# Altium footprint library C19268642.PcbLib: 1 footprints
Each footprint in its own frame and in the unit in brackets; x right, y up, seen from the top. Pads: shape width x height; smd on the part's side, far side on the other; paste and mask are expansions set on the pad; w line width, h text height; cw(c..) or ccw(c..) is an arc to the next point about the centre after c.
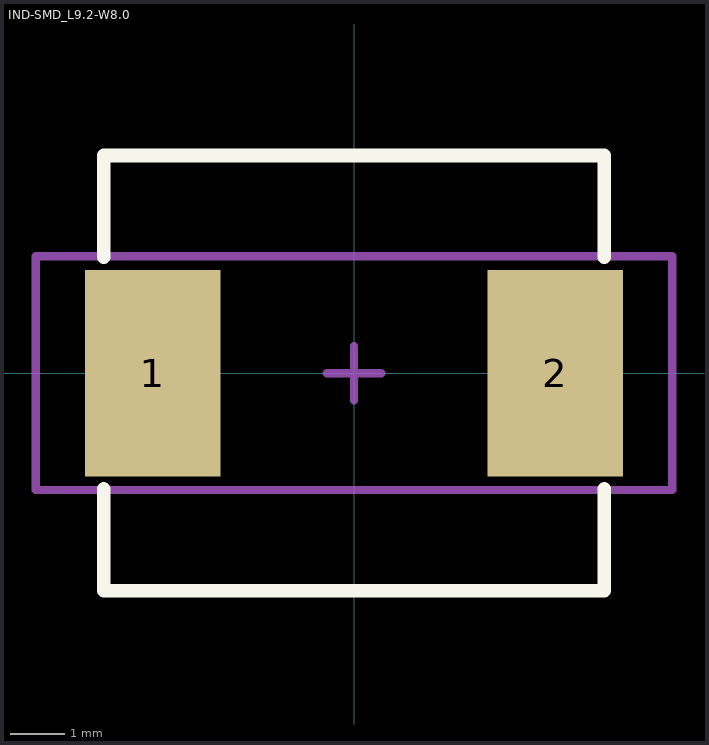
[diagram p0: the footprint, top view; thin cyan lines are the x and y axes]

## IND-SMD_L9.2-W8.0 [mm] "10A 3.3uH ±20% 15A Molded inductor SMD,9.2x8mm Fixed Inductors"
pads (2):
  rect 2.5x3.8 smd: 1(-3.7,0) 2(3.7,0)
Top Overlay:
  circle w0.06: c-4.6,-4 r0.03
  lines w0.254: -4.6,-2.131 -4.6,-4 4.6,-4 4.6,-2.131 ; -4.6,2.131 -4.6,4 4.6,4 4.6,2.131
AOI:
  region: -4.6,1.5 -2.8,1.5 -2.8,-1.5 -4.6,-1.5
  region: 2.8,1.5 4.6,1.5 4.6,-1.5 2.8,-1.5
Top Courtyard:
  lines w0.15: -0.5,0 0.5,0 ; 0,-0.5 0,0.5 ; -5.85,-2.15 5.85,-2.15 5.85,2.15 -5.85,2.15 -5.85,-2.15